# Altium footprint library PCB_General.PcbLib: 49 footprints (part 3 of 4)
Each footprint in its own frame and in the unit in brackets; x right, y up, seen from the top. Pads: shape width x height; smd on the part's side, far side on the other; paste and mask are expansions set on the pad; w line width, h text height; cw(c..) or ccw(c..) is an arc to the next point about the centre after c.
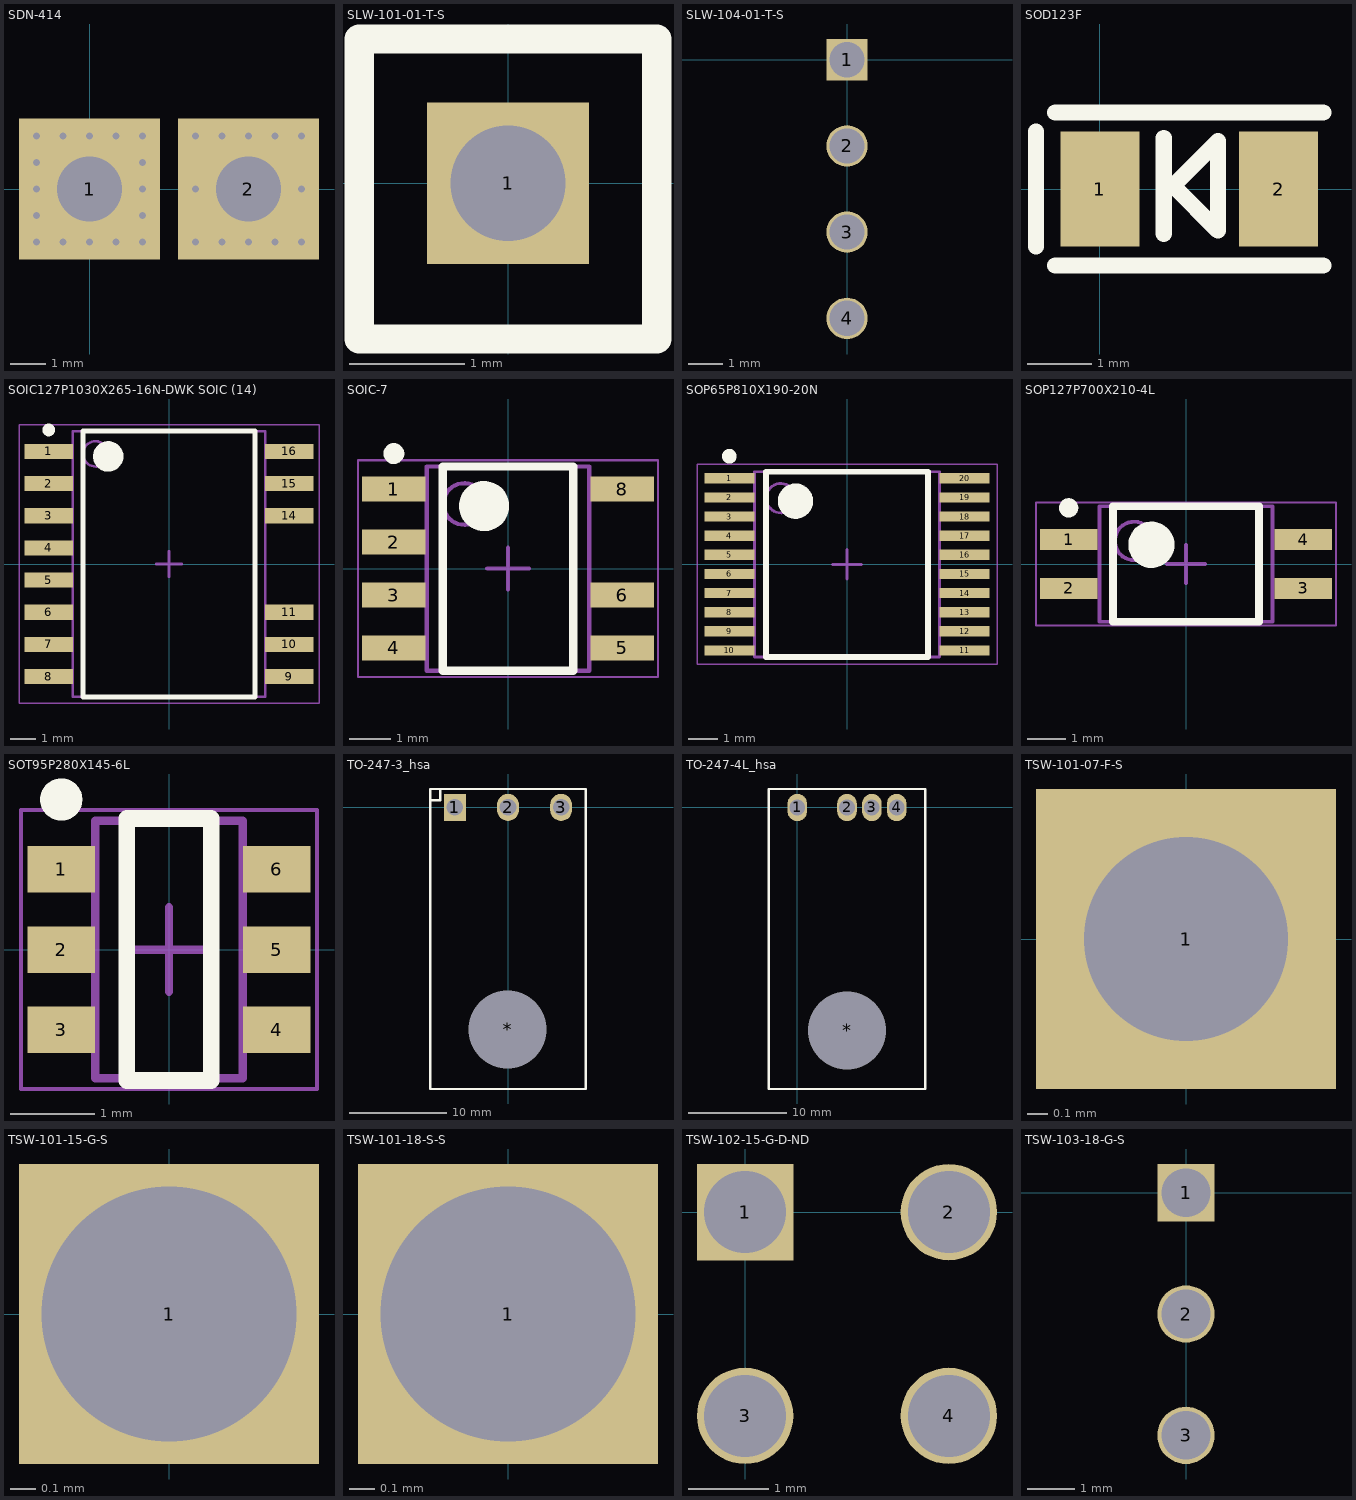
[diagram p2: the footprints below, top view; thin cyan lines are the x and y axes]

## SDN-414 [mm]
pads (2):
  rect 4x4 hole 1.85: 1(0,0) 2(4.5,0)
via 3,0 diameter 0.45 hole 0.2
via 0,1.5 diameter 0.45 hole 0.2
via -0.75,1.5 diameter 0.45 hole 0.2
via -1.5,0 diameter 0.45 hole 0.2
via -1.5,-0.75 diameter 0.45 hole 0.2
via 0,-1.5 diameter 0.45 hole 0.2
via 0.75,-1.5 diameter 0.45 hole 0.2
via 0.75,1.5 diameter 0.45 hole 0.2
via -0.75,-1.5 diameter 0.45 hole 0.2
via -1.5,-1.5 diameter 0.45 hole 0.2
via -1.5,1.5 diameter 0.45 hole 0.2
via -1.5,0.75 diameter 0.45 hole 0.2
via 1.5,1.5 diameter 0.45 hole 0.2
via 1.5,0.75 diameter 0.45 hole 0.2
via 1.5,0 diameter 0.45 hole 0.2
via 1.5,-0.75 diameter 0.45 hole 0.2
via 1.5,-1.5 diameter 0.45 hole 0.2
via 4.5,1.5 diameter 0.45 hole 0.2
via 3.75,1.5 diameter 0.45 hole 0.2
via 5.25,1.5 diameter 0.45 hole 0.2
via 3,1.5 diameter 0.45 hole 0.2
via 6,1.5 diameter 0.45 hole 0.2
via 4.5,-1.5 diameter 0.45 hole 0.2
via 3.75,-1.5 diameter 0.45 hole 0.2
via 5.25,-1.5 diameter 0.45 hole 0.2
via 3,-1.5 diameter 0.45 hole 0.2
via 6,-1.5 diameter 0.45 hole 0.2
via 6,0 diameter 0.45 hole 0.2

## SLW-101-01-T-S [mm] "Headers & Wire Housings .100\" Tiger Buy Low Profile Socket Strip"
pads (1):
  rect 1.4x1.4 hole 1: 1(0,0)
Top Overlay:
  lines w0.254: -1.29,-1.35 -1.29,1.25 1.29,1.25 1.29,-1.35 -1.29,-1.35
3D body "Assembly1.stp": height 2.46, standoff -5.03, extent -1.24,-1.33 1.3,1.21

## SLW-104-01-T-S [mm]
pads (4):
  rect 1.2x1.2 hole 1.02: 1(0,0)
  round 1.2 hole 1.02: 2(0,-2.5) 3(0,-5) 4(0,-7.5)
3D body "SLW-104-01-T-S.stp": height 4.58, standoff -2.91, extent -1.26,-8.72 1.28,1.44

## SOD123F [mm] "SOD123F package for diodes"
height 1.15
pads (2):
  rect 1.24x1.8 smd: 1(0,0) 2(2.8,0)
Top Overlay:
  lines w0.254: -1,-0.9 -1,0.9 ; -0.7,-1.2 3.5,-1.2 ; -0.7,1.2 3.5,1.2 ; 1,-0.7 1,0.8 ; 1.15,0.05 1.85,-0.65 1.85,0.75 1.15,0.05
3D body "SOD123F.step": height 1.08, standoff -0.02, extent -0.45,-0.8 3.05,0.8

## SOIC127P1030X265-16N-DWK SOIC (14) [mm] "DWK SOIC (14) 16-Leads, Body 10,30x7,50mm, Pitch 1,27mm, IPC Medium Density"
height 2.65
pads (14):
  rect 1.9x0.6 smd: 1(-4.75,4.445) 2(-4.75,3.175) 3(-4.75,1.905) 4(-4.75,0.635) 5(-4.75,-0.635) 6(-4.75,-1.905) 7(-4.75,-3.175) 8(-4.75,-4.445) 9(4.75,-4.445) 10(4.75,-3.175) 11(4.75,-1.905) 14(4.75,1.905) 15(4.75,3.175) 16(4.75,4.445)
Top Overlay:
  circle w0.25: c-4.75,5.295 r0.125
  circle w0.6: c-2.4,4.25 r0.3
  lines w0.2: -3.4,-5.25 -3.4,5.25 3.4,5.25 3.4,-5.25 -3.4,-5.25
Top Assembly:
  circle w0.1: c-2.9,4.35 r0.5
  lines w0.1: -3.8,-5.25 -3.8,5.25 3.8,5.25 3.8,-5.25 -3.8,-5.25
Mechanical 15:
  lines w0.05: -5.925,-5.5 -5.925,5.5 5.925,5.5 5.925,-5.5 -5.925,-5.5
  lines w0.1: -0.5,0 0.5,0 ; 0,-0.5 0,0.5
3D body: height 2.65, standoff 0.1, extent -3.8,-5.25 3.8,5.25

## SOIC-7 [mm] "SOIC, 7-Leads, Body 4.9x3.9mm, Pitch 1.27mm"
height 1.75
pads (7):
  rect 1.52x0.6 smd: 1(-2.74,1.905) 2(-2.74,0.635) 3(-2.74,-0.635) 4(-2.74,-1.905) 5(2.74,-1.905) 6(2.74,-0.635) 8(2.74,1.905)
Top Overlay:
  circle w0.6: c-0.575,1.5 r0.3
  circle w0.25: c-2.74,2.76 r0.125
  lines w0.2: -1.569,-2.45 1.569,-2.45 1.569,2.45 -1.569,2.45 -1.569,-2.45
Mechanical 13:
  circle w0.1: c-1.05,1.55 r0.5
  lines w0.1: -1.95,-2.45 1.95,-2.45 1.95,2.45 -1.95,2.45 -1.95,-2.45
Mechanical 15:
  lines w0.05: -3.6,-2.6 3.6,-2.6 3.6,2.6 -3.6,2.6 -3.6,-2.6
  lines w0.1: -0.5,0 0.5,0 ; 0,-0.5 0,0.5
3D body "SOIC127P600X175-8L.step": height 1.75, standoff 0, extent -3,-2.5 3,2.5

## SOP65P810X190-20N [mm] "SOP, 20-Leads, Body 6,50x6,10mm, Pitch 0,65mm, IPC Medium Density"
height 1.9
pads (20):
  rect 1.7x0.35 smd: 1(-4,2.925) 2(-4,2.275) 3(-4,1.625) 4(-4,0.975) 5(-4,0.325) 6(-4,-0.325) 7(-4,-0.975) 8(-4,-1.625) 9(-4,-2.275) 10(-4,-2.925) 11(4,-2.925) 12(4,-2.275) 13(4,-1.625) 14(4,-0.975) 15(4,-0.325) 16(4,0.325) 17(4,0.975) 18(4,1.625) 19(4,2.275) 20(4,2.925)
Top Overlay:
  circle w0.25: c-4,3.675 r0.125
  circle w0.6: c-1.75,2.15 r0.3
  lines w0.2: -2.75,-3.15 -2.75,3.15 2.75,3.15 2.75,-3.15 -2.75,-3.15
Top Assembly:
  circle w0.1: c-2.25,2.25 r0.5
  lines w0.1: -3.15,-3.15 -3.15,3.15 3.15,3.15 3.15,-3.15 -3.15,-3.15
Mechanical 15:
  lines w0.05: -5.1,-3.4 -5.1,3.4 5.1,3.4 5.1,-3.4 -5.1,-3.4
  lines w0.1: -0.5,0 0.5,0 ; 0,-0.5 0,0.5
3D body: height 1.9, standoff 0.11, extent -3.15,-3.15 3.15,3.15

## SOP127P700X210-4L [mm] "SOP, 4-Leads, Body 2,85x4,45mm, Pitch 1,27mm, IPC High Density"
height 2.1
pads (4):
  rect 1.5x0.55 smd: 1(-3.05,0.635) 2(-3.05,-0.635) 3(3.05,-0.635) 4(3.05,0.635)
Top Overlay:
  circle w0.6: c-0.9,0.5 r0.3
  circle w0.25: c-3.05,1.46 r0.125
  lines w0.2: -1.9,-1.5 1.9,-1.5 1.9,1.5 -1.9,1.5 -1.9,-1.5
Mechanical 13:
  circle w0.1: c-1.35,0.6 r0.5
  lines w0.1: -2.25,-1.5 2.25,-1.5 2.25,1.5 -2.25,1.5 -2.25,-1.5
Mechanical 15:
  lines w0.05: -3.9,-1.6 3.9,-1.6 3.9,1.6 -3.9,1.6 -3.9,-1.6
  lines w0.1: -0.5,0 0.5,0 ; 0,-0.5 0,0.5
3D body: height 2.1, standoff 0.1, extent -2.25,-1.5 2.25,1.5

## SOT95P280X145-6L [mm] "SOT23, 6-Leads, Body 2,90x2,80mm, Pitch 0,95mm, IPC High Density"
height 1.45
pads (6):
  rect 0.8x0.55 smd: 1(-1.275,0.95) 2(-1.275,0) 3(-1.275,-0.95) 4(1.275,-0.95) 5(1.275,0) 6(1.275,0.95)
Top Overlay:
  circle w0.25: c-1.275,1.775 r0.125
  lines w0.2: -0.5,-1.55 -0.5,1.55 0.5,1.55 0.5,-1.55 -0.5,-1.55
Mechanical 13:
  lines w0.1: -0.875,-1.525 0.875,-1.525 0.875,1.525 -0.875,1.525 -0.875,-1.525
Mechanical 15:
  lines w0.05: -1.75,-1.65 1.75,-1.65 1.75,1.65 -1.75,1.65 -1.75,-1.65
  lines w0.1: -0.5,0 0.5,0 ; 0,-0.5 0,0.5
3D body: height 1.45, standoff 0.15, extent -0.875,-1.525 0.875,1.525

## TO-247-3_hsa [mm]
pads (4):
  rect 2.24x2.8 hole 1.7: 1(-5.45,0)
  oval 2.24x2.8 hole 1.7: 2(0,0) 3(5.45,0)
  round 7 hole 8 unplated: *(-0.05,-22.78)
Top Overlay:
  lines w0.254: -7.9,0.725 -6.975,0.725 -6.975,1.875 ; -8,-28.9 -8,1.89 8,1.89 8,-28.9 -8,-28.9
3D body "TO247-3_90arriba.stp": height 5.2, standoff -10.68, extent -8,-28.9 8,0.35

## TO-247-4L_hsa [mm] "TO-247-4L package, horizontal, heat sink above"
height 27.6
pads (5):
  oval 2x2.8 hole 1.6: 1(0,0) 2(5.08,0) 3(7.62,0) 4(10.16,0)
  round 7 hole 8 unplated: *(5.08,-22.78)
Top Overlay:
  lines w0.254: -2.92,-28.76 -2.92,1.89 13.08,1.89 13.08,-28.76 -2.92,-28.76
3D body "TO247-4_90arriba.stp": height 5.1, standoff -10.78, extent -2.88,-28.815 13.12,0.435

## TSW-101-07-F-S [mm]
pads (1):
  rect 1.5x1.5 hole 1.02: 1(0,0)
3D body "TSW-101-07-F-S.stp": height 8.39, standoff -2.53, extent -1.27,-1.27 1.27,1.27

## TSW-101-15-G-S [mm]
pads (1):
  rect 1.2x1.2 hole 1.02: 1(0,0)
3D body "TSW-101-15-G-S.stp": height 15.76, standoff -2.78, extent -1.27,-1.27 1.27,1.27

## TSW-101-18-S-S [mm] "Alojamientos de cables y cabecera .100\" Terminal Strip"
pads (1):
  rect 1.2x1.2 hole 1.02: 1(0,0)
3D body "TSW-101-18-S-S.stp": height 20.84, standoff -2.78, extent -1.27,-1.27 1.27,1.27

## TSW-102-15-G-D-ND [mm]
pads (4):
  rect 1.2x1.2 hole 1.02: 1(0,0)
  round 1.2 hole 1.02: 2(2.54,0) 3(0,-2.54) 4(2.54,-2.54)
3D body "TSW-102-15-G-D.stp": height 15.76, standoff -2.78, extent -1.29,-3.79 3.79,1.29

## TSW-103-18-G-S [mm] "Alojamientos de cables y cabecera .100\" Terminal Strip"
pads (3):
  rect 1.2x1.2 hole 1.02: 1(0,0)
  round 1.2 hole 1.02: 2(0,-2.54) 3(0,-5.08)
3D body "TSW-103-18-G-S.stp": height 20.84, standoff -2.78, extent -1.27,-6.477 1.27,1.27